# EAGLE library part MAXBOTICS-HRLV (library arducorder-mini)
Maxbotics HRLV-EZ# Series of MaxSonar ultrasonic range finder / distance sensors.
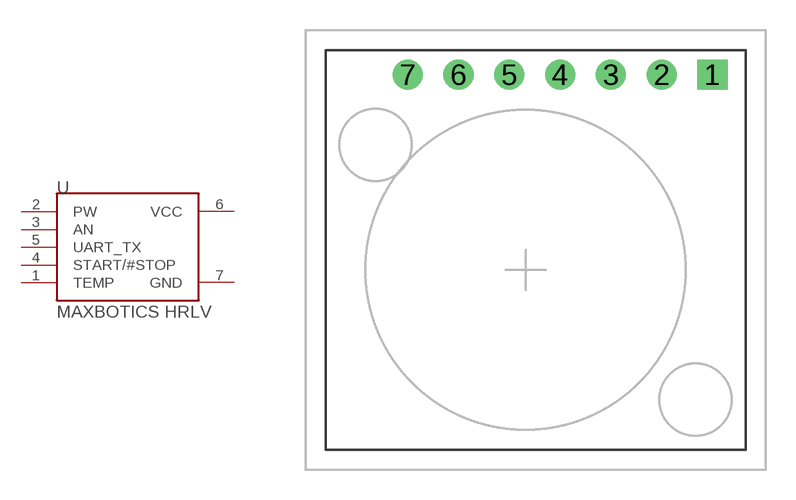
[diagram p23: symbol with the pads of MAXBOTICS-HRLV; footprint MAXBOTICS-HRLV]

Designator prefix -

## MAXBOTICS-HRLV  [MAXBOTICS-HRLV]
1  TEMP
2  PW
3  AN
4  START/#STOP
5  UART_TX
6  VCC
7  GND

## Footprint MAXBOTICS-HRLV (pad centres in mm)
drill 1 square: 1 9.35,9.77
drill 1: 2 6.81,9.77; 3 4.27,9.77; 4 1.73,9.77; 5 -0.81,9.77; 6 -3.35,9.77; 7 -5.89,9.77